# EAGLE library part MOS6581 (library seb)
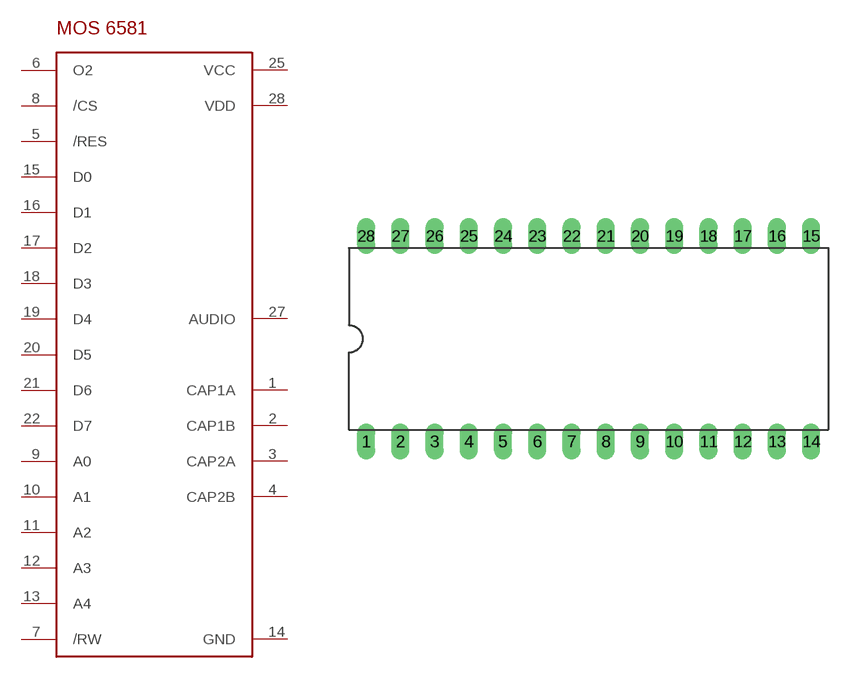
[diagram p10: symbol with the pads of DIL28; footprint DIL28]

Designator prefix IC

## MOS6581  [DIL28]
1  CAP1A
2  CAP1B
3  CAP2A
4  CAP2B
5  /RES
6  O2
7  /RW
8  /CS
9  A0
10  A1
11  A2
12  A3
13  A4
14  GND
15  D0
16  D1
17  D2
18  D3
19  D4
20  D5
21  D6
22  D7
25  VCC
27  AUDIO
28  VDD

## Footprint DIL28 (pad centres in mm)
Dual In Line Package
drill 0.813 long: 1 -16.51,-7.62; 2 -13.97,-7.62; 3 -11.43,-7.62; 4 -8.89,-7.62; 5 -6.35,-7.62; 6 -3.81,-7.62; 7 -1.27,-7.62; 8 1.27,-7.62; 9 3.81,-7.62; 10 6.35,-7.62; 11 8.89,-7.62; 12 11.43,-7.62; 13 13.97,-7.62; 14 16.51,-7.62; 15 16.51,7.62; 16 13.97,7.62; 17 11.43,7.62; 18 8.89,7.62; 19 6.35,7.62; 20 3.81,7.62; 21 1.27,7.62; 22 -1.27,7.62; 23 -3.81,7.62; 24 -6.35,7.62; 25 -8.89,7.62; 26 -11.43,7.62; 27 -13.97,7.62; 28 -16.51,7.62